# Altium footprint library 1N4 Series - Axial.PcbLib: 7 footprints
Each footprint in its own frame and in the unit in brackets; x right, y up, seen from the top. Pads: shape width x height; smd on the part's side, far side on the other; paste and mask are expansions set on the pad; w line width, h text height; cw(c..) or ccw(c..) is an arc to the next point about the centre after c.
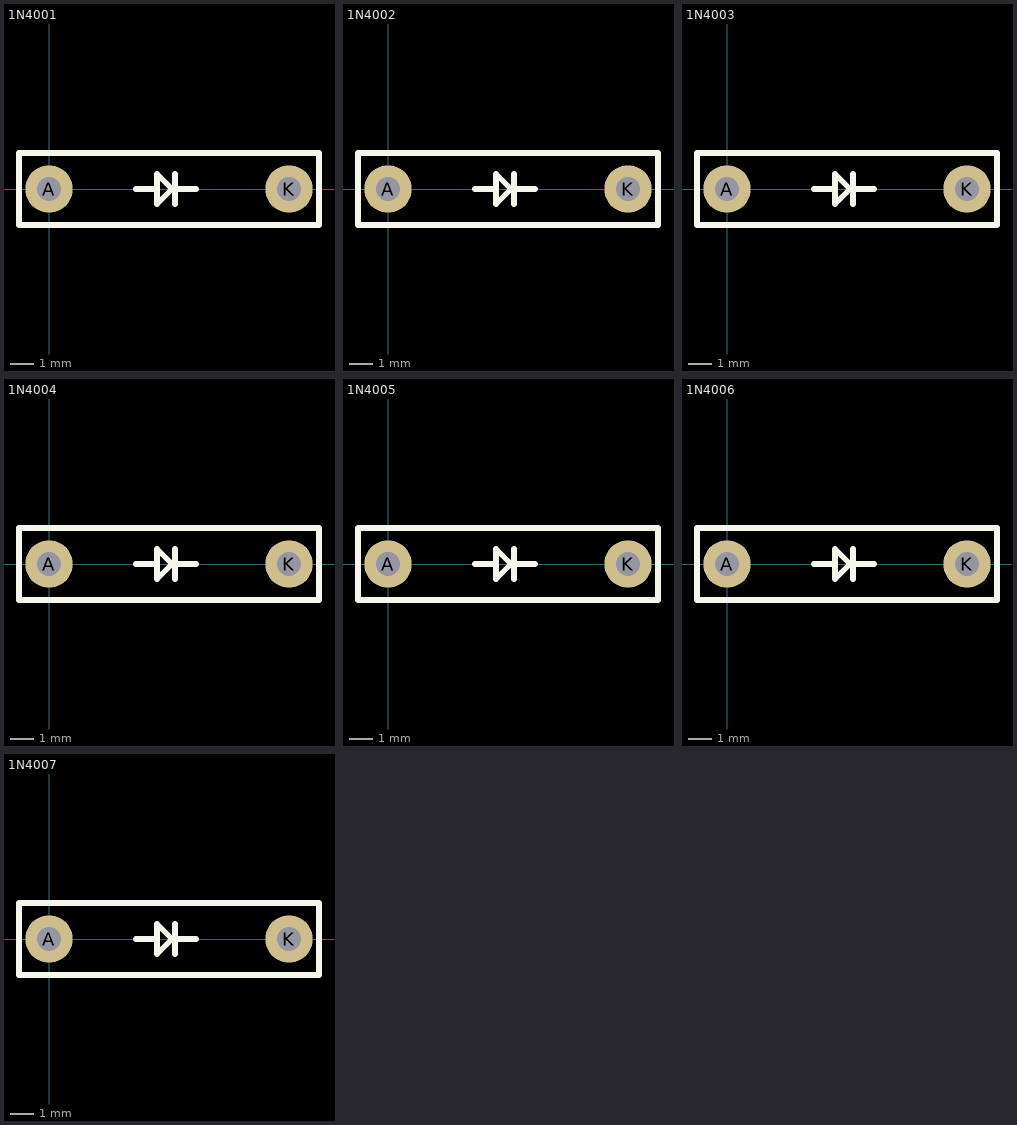
[diagram p0: the footprints below, top view; thin cyan lines are the x and y axes]

## 1N4001 [mm] "Diode Standard 50V 1A Through Hole DO-41"
pads (2):
  round 2 hole 1: A(0,0) K(10.16,0)
Top Overlay:
  lines w0.254: 3.683,0 4.572,0 ; 5.334,-0.635 5.334,0.635 ; 5.334,0 6.223,0 ; 4.572,0 4.572,0.635 5.207,0 4.572,-0.635 4.572,0 ; -1.27,-1.524 11.43,-1.524 11.43,1.524 -1.27,1.524 -1.27,-1.524
3D body "1N4007 PTH.step": height 2.72, standoff -2.6, extent -0.432,-1.36 10.592,1.36

## 1N4002 [mm] "Diode Standard 100V 1A Through Hole DO-41"
pads (2):
  round 2 hole 1: A(0,0) K(10.16,0)
Top Overlay:
  lines w0.254: 3.683,0 4.572,0 ; 5.334,-0.635 5.334,0.635 ; 5.334,0 6.223,0 ; 4.572,0 4.572,-0.635 5.207,0 4.572,0.635 4.572,0 ; -1.27,-1.524 -1.27,1.524 11.43,1.524 11.43,-1.524 -1.27,-1.524
3D body "1N4007 PTH.step": height 2.72, standoff -2.6, extent -0.432,-1.36 10.592,1.36

## 1N4003 [mm] "Diode Standard 200V 1A Through Hole DO-41"
pads (2):
  round 2 hole 1: A(0,0) K(10.16,0)
Top Overlay:
  lines w0.254: 3.683,0 4.572,0 ; 5.334,-0.635 5.334,0.635 ; 5.334,0 6.223,0 ; 4.572,0 4.572,-0.635 5.207,0 4.572,0.635 4.572,0 ; -1.27,-1.524 -1.27,1.524 11.43,1.524 11.43,-1.524 -1.27,-1.524
3D body "1N4007 PTH.step": height 2.72, standoff -2.6, extent -0.432,-1.36 10.592,1.36

## 1N4004 [mm] "Diode Standard 400V 1A Through Hole DO-41"
pads (2):
  round 2 hole 1: A(0,0) K(10.16,0)
Top Overlay:
  lines w0.254: 3.683,0 4.572,0 ; 5.334,-0.635 5.334,0.635 ; 5.334,0 6.223,0 ; 4.572,0 4.572,-0.635 5.207,0 4.572,0.635 4.572,0 ; -1.27,-1.524 -1.27,1.524 11.43,1.524 11.43,-1.524 -1.27,-1.524
3D body "1N4007 PTH.step": height 2.72, standoff -2.6, extent -0.432,-1.36 10.592,1.36

## 1N4005 [mm] "Diode Standard 600V 1A Through Hole DO-41"
pads (2):
  round 2 hole 1: A(0,0) K(10.16,0)
Top Overlay:
  lines w0.254: 3.683,0 4.572,0 ; 5.334,-0.635 5.334,0.635 ; 5.334,0 6.223,0 ; 4.572,0 4.572,-0.635 5.207,0 4.572,0.635 4.572,0 ; -1.27,-1.524 -1.27,1.524 11.43,1.524 11.43,-1.524 -1.27,-1.524
3D body "1N4007 PTH.step": height 2.72, standoff -2.6, extent -0.432,-1.36 10.592,1.36

## 1N4006 [mm] "Diode Standard 800V 1A Through Hole DO-41"
pads (2):
  round 2 hole 1: A(0,0) K(10.16,0)
Top Overlay:
  lines w0.254: 3.683,0 4.572,0 ; 5.334,-0.635 5.334,0.635 ; 5.334,0 6.223,0 ; 4.572,0 4.572,-0.635 5.207,0 4.572,0.635 4.572,0 ; -1.27,-1.524 -1.27,1.524 11.43,1.524 11.43,-1.524 -1.27,-1.524
3D body "1N4007 PTH.step": height 2.72, standoff -2.6, extent -0.432,-1.36 10.592,1.36

## 1N4007 [mm] "Diode Standard 1000V 1A Through Hole DO-41"
pads (2):
  round 2 hole 1: A(0,0) K(10.16,0)
Top Overlay:
  lines w0.254: 3.683,0 4.572,0 ; 5.334,-0.635 5.334,0.635 ; 5.334,0 6.223,0 ; 4.572,0 4.572,-0.635 5.207,0 4.572,0.635 4.572,0 ; -1.27,-1.524 -1.27,1.524 11.43,1.524 11.43,-1.524 -1.27,-1.524
3D body "1N4007 PTH.step": height 2.72, standoff -2.6, extent -0.432,-1.36 10.592,1.36